# Altium schematic symbol library LTM4607IV#PBF.SchLib: 1 symbol
Pins are listed as number, name and electrical type; pins without a type are passive.

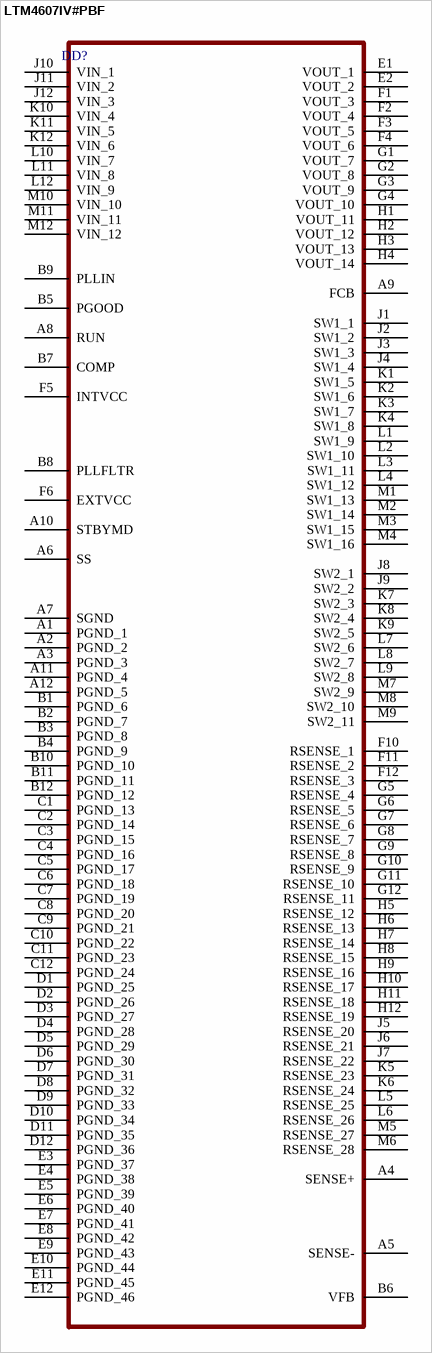
[diagram p0: symbol LTM4607IV#PBF]

## LTM4607IV#PBF
designator DD?
pins: A1 PGND_1, A2 PGND_2, A3 PGND_3, A4 SENSE+, A5 SENSE-, A6 SS, A7 SGND, A8 RUN, A9 FCB, A10 STBYMD, A11 PGND_4, A12 PGND_5, B1 PGND_6, B2 PGND_7, B3 PGND_8, B4 PGND_9, B5 PGOOD, B6 VFB, B7 COMP, B8 PLLFLTR, B9 PLLIN, B10 PGND_10, B11 PGND_11, B12 PGND_12, C1 PGND_13, C2 PGND_14, C3 PGND_15, C4 PGND_16, C5 PGND_17, C6 PGND_18, C7 PGND_19, C8 PGND_20, C9 PGND_21, C10 PGND_22, C11 PGND_23, C12 PGND_24, D1 PGND_25, D2 PGND_26, D3 PGND_27, D4 PGND_28, D5 PGND_29, D6 PGND_30, D7 PGND_31, D8 PGND_32, D9 PGND_33, D10 PGND_34, D11 PGND_35, D12 PGND_36, E1 VOUT_1, E2 VOUT_2, E3 PGND_37, E4 PGND_38, E5 PGND_39, E6 PGND_40, E7 PGND_41, E8 PGND_42, E9 PGND_43, E10 PGND_44, E11 PGND_45, E12 PGND_46, F1 VOUT_3, F2 VOUT_4, F3 VOUT_5, F4 VOUT_6, F5 INTVCC, F6 EXTVCC, F10 RSENSE_1, F11 RSENSE_2, F12 RSENSE_3, G1 VOUT_7, G2 VOUT_8, G3 VOUT_9, G4 VOUT_10, G5 RSENSE_4, G6 RSENSE_5, G7 RSENSE_6, G8 RSENSE_7, G9 RSENSE_8, G10 RSENSE_9, G11 RSENSE_10, G12 RSENSE_11, H1 VOUT_11, H2 VOUT_12, H3 VOUT_13, H4 VOUT_14, H5 RSENSE_12, H6 RSENSE_13, H7 RSENSE_14, H8 RSENSE_15, H9 RSENSE_16, H10 RSENSE_17, H11 RSENSE_18, H12 RSENSE_19, J1 SW1_1, J2 SW1_2, J3 SW1_3, J4 SW1_4, J5 RSENSE_20, J6 RSENSE_21, J7 RSENSE_22, J8 SW2_1, J9 SW2_2, J10 VIN_1, J11 VIN_2, J12 VIN_3, K1 SW1_5, K2 SW1_6, K3 SW1_7, K4 SW1_8, K5 RSENSE_23, K6 RSENSE_24, K7 SW2_3, K8 SW2_4, K9 SW2_5, K10 VIN_4, K11 VIN_5, K12 VIN_6, L1 SW1_9, L2 SW1_10, L3 SW1_11, L4 SW1_12, L5 RSENSE_25, L6 RSENSE_26, L7 SW2_6, L8 SW2_7, L9 SW2_8, L10 VIN_7, L11 VIN_8, L12 VIN_9, M1 SW1_13, M2 SW1_14, M3 SW1_15, M4 SW1_16, M5 RSENSE_27, M6 RSENSE_28, M7 SW2_9, M8 SW2_10, M9 SW2_11, M10 VIN_10, M11 VIN_11, M12 VIN_12